# Altium footprint library IC_Texas_Instruments_LMR14010ADDCR_eec_IPC_A.PcbLib: 1 footprints
Each footprint in its own frame and in the unit in brackets; x right, y up, seen from the top. Pads: shape width x height; smd on the part's side, far side on the other; paste and mask are expansions set on the pad; w line width, h text height; cw(c..) or ccw(c..) is an arc to the next point about the centre after c.
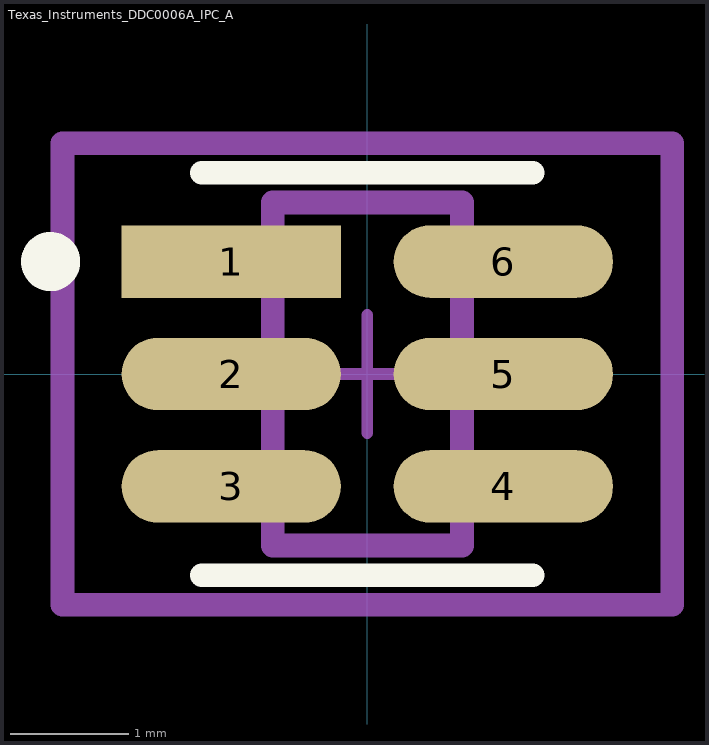
[diagram p0: the footprint, top view; thin cyan lines are the x and y axes]

## Texas_Instruments_DDC0006A_IPC_A [mm]
pads (6):
  rect 1.854x0.612 smd paste+0 mask+0: 1(-1.15,0.95)
  rrect100% 1.854x0.612 smd paste+0 mask+0: 2(-1.15,0) 3(-1.15,-0.95) 4(1.15,-0.95) 5(1.15,0) 6(1.15,0.95)
Top Overlay:
  circle w0.25: c-2.677,0.95 r0.125
  lines w0.2: -1.4,-1.7 1.4,-1.7 ; -1.4,1.7 1.4,1.7
Mechanical 10:
  lines w0.2: -2.577,-1.95 2.577,-1.95 2.577,1.95 -2.577,1.95 -2.577,-1.95
  text ".Designator" at 0,0 h1
Mechanical 12:
  lines w0.2: -0.8,-1.45 0.8,-1.45 0.8,1.45 -0.8,1.45 -0.8,-1.45
Mechanical 15:
  lines w0.1: -0.5,0 0.5,0 ; 0,-0.5 0,0.5
  lines w0.2: -2.577,-1.95 2.577,-1.95 2.577,1.95 -2.577,1.95 -2.577,-1.95
3D body "IC_Texas_Instruments_LMR14010ADDCR_eec.STEP": height 0.25, standoff 0, extent -2.577,-1.95 2.577,1.95